# EAGLE library part HEF4543BT,653 (library HEF4543BT_653)
HEF4543B - BCD to 7-segment latch/decoder/driver@en-us Source: Datasheet <https://assets.nexperia.com/documents/data-sheet/HEF4543B.pdf>
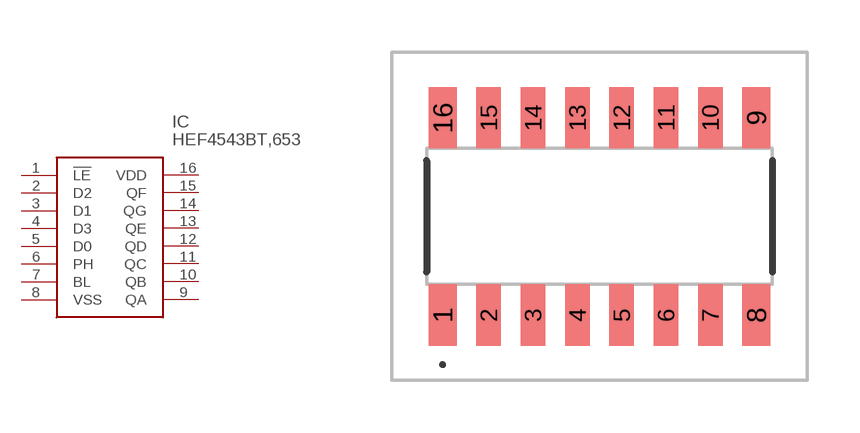
[diagram p0: symbol with the pads of HEF4543BT653; footprint HEF4543BT653]

Designator prefix IC

## HEF4543BT,653 (Description: HEF4543B - BCD to 7-segment latch/decoder/driver@en-us; Height: 1.75mm; Manufacturer_Name: Nexperia; Manufacturer_Part_Number: HEF4543BT,653; Mouser_Part_Number: 771-HEF4543BT653; Mouser_Price-Stock: https://www.mouser.co.uk/ProductDetail/Nexperia/HEF4543BT653?qs=me8TqzrmIYWAyDWbNh%252BB7A%3D%3D)  [HEF4543BT653]
1  !LE
2  D2
3  D1
4  D3
5  D0
6  PH
7  BL
8  VSS
9  QA
10  QB
11  QC
12  QD
13  QE
14  QG
15  QF
16  VDD

## Footprint HEF4543BT653 (pad centres in mm)
HEF4543BT,653-1
smd 0.8 x 1.75: 1 -4.495,-2.825; 8 4.495,-2.825; 9 4.495,2.825; 16 -4.495,2.825
smd 0.7 x 1.75: 2 -3.175,-2.825; 3 -1.905,-2.825; 4 -0.635,-2.825; 5 0.635,-2.825; 6 1.905,-2.825; 7 3.175,-2.825; 10 3.175,2.825; 11 1.905,2.825; 12 0.635,2.825; 13 -0.635,2.825; 14 -1.905,2.825; 15 -3.175,2.825